# EAGLE library part DSPIC33FJ12GP202-I/SP (library Microchip_By_element14_Batch_1)
16-bit Digital Signal Controllers
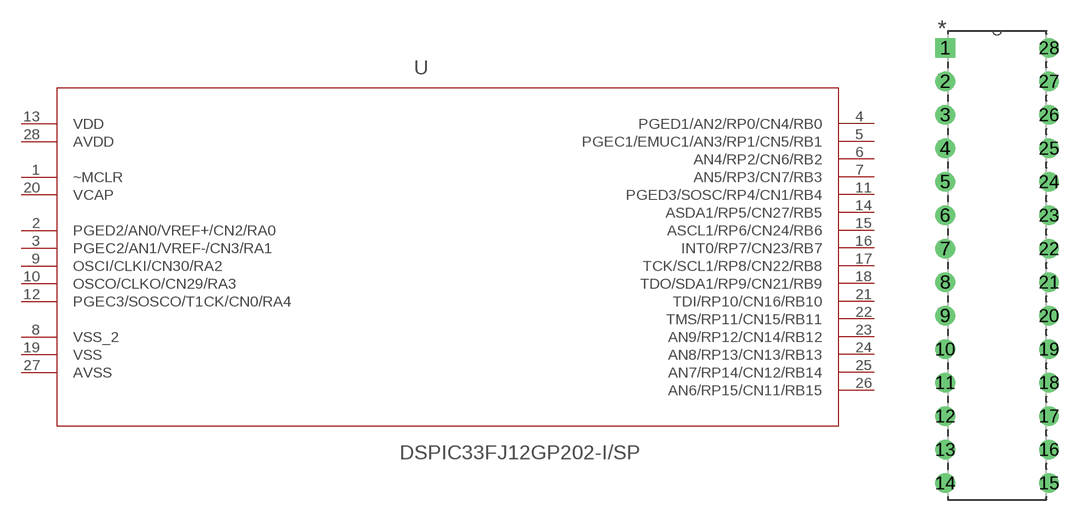
[diagram p371: symbol with the pads of DIP254P762X508-28; footprint DIP254P762X508-28]

Designator prefix -

## DSPIC33FJ12GP202-I/SP (DESCRIPTION: 16-bit Digital Signal Controllers; MPN: DSPIC33FJ12GP202-I/SP; OC_FARNELL: 1439606; OC_NEWARK: 88K3894; PACKAGE: DIP-28; SUPPLIER: Microchip)  [DIP254P762X508-28]
1  ~MCLR  in
2  PGED2/AN0/VREF+/CN2/RA0
3  PGEC2/AN1/VREF-/CN3/RA1
4  PGED1/AN2/RP0/CN4/RB0
5  PGEC1/EMUC1/AN3/RP1/CN5/RB1
6  AN4/RP2/CN6/RB2
7  AN5/RP3/CN7/RB3
8  VSS_2  pwr
9  OSCI/CLKI/CN30/RA2
10  OSCO/CLKO/CN29/RA3
11  PGED3/SOSC/RP4/CN1/RB4
12  PGEC3/SOSCO/T1CK/CN0/RA4
13  VDD  pwr
14  ASDA1/RP5/CN27/RB5
15  ASCL1/RP6/CN24/RB6
16  INT0/RP7/CN23/RB7
17  TCK/SCL1/RP8/CN22/RB8
18  TDO/SDA1/RP9/CN21/RB9
19  VSS  pwr
20  VCAP  pwr
21  TDI/RP10/CN16/RB10
22  TMS/RP11/CN15/RB11
23  AN9/RP12/CN14/RB12
24  AN8/RP13/CN13/RB13
25  AN7/RP14/CN12/RB14
26  AN6/RP15/CN11/RB15
27  AVSS  pwr
28  AVDD  pwr

## Footprint DIP254P762X508-28 (pad centres in mm)
drill 0.991 square: 1 -7.874,33.02
drill 0.991: 2 -7.874,30.48; 3 -7.874,27.94; 4 -7.874,25.4; 5 -7.874,22.86; 6 -7.874,20.32; 7 -7.874,17.78; 8 -7.874,15.24; 9 -7.874,12.7; 10 -7.874,10.16; 11 -7.874,7.62; 12 -7.874,5.08; 13 -7.874,2.54; 14 -7.874,0; 15 0,0; 16 0,2.54; 17 0,5.08; 18 0,7.62; 19 0,10.16; 20 0,12.7; 21 0,15.24; 22 0,17.78; 23 0,20.32; 24 0,22.86; 25 0,25.4; 26 0,27.94; 27 0,30.48; 28 0,33.02